# Altium footprint library SSW-102-22-X-S.PcbLib: 1 footprints
Each footprint in its own frame and in the unit in brackets; x right, y up, seen from the top. Pads: shape width x height; smd on the part's side, far side on the other; paste and mask are expansions set on the pad; w line width, h text height; cw(c..) or ccw(c..) is an arc to the next point about the centre after c.
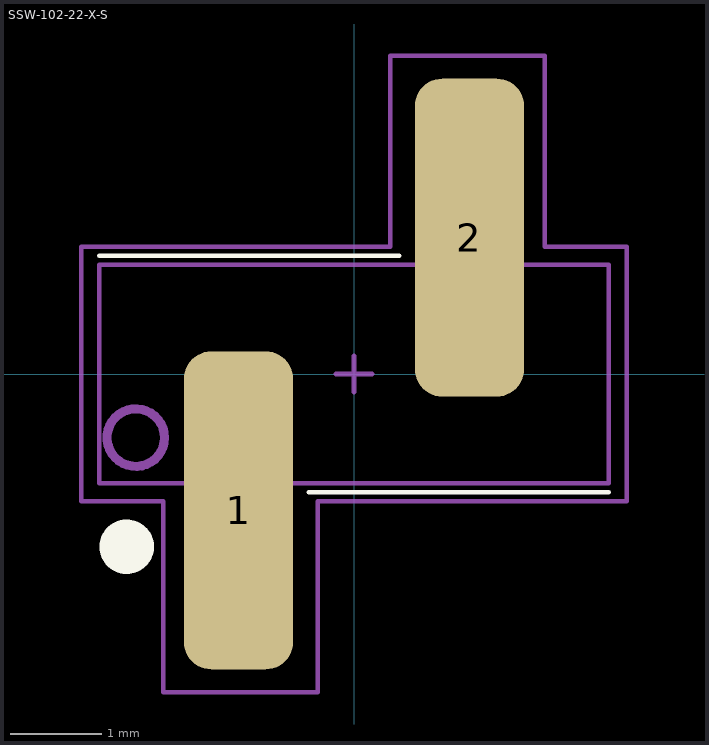
[diagram p0: the footprint, top view; thin cyan lines are the x and y axes]

## SSW-102-22-X-S [mm]
pads (2):
  rrect50% 1.2x3.5 smd mask+0.05: 1(-1.27,-1.5) 2(1.27,1.5)
Top Overlay:
  circle w0.3: c-2.5,-1.9 r0.15
  lines w0.05: -2.8,1.3 0.5,1.3 ; -0.5,-1.3 2.8,-1.3
Top Assembly:
  circle w0.1: c-2.4,-0.7 r0.316
  lines w0.05: -2.8,-1.2 -1.7,-1.2 -1.7,-2.6 -0.8,-2.6 -0.8,-1.2 2.8,-1.2 2.8,0 2.8,1.2 1.7,1.2 1.7,2.6 0.8,2.6 0.8,1.2 -2.8,1.2 -2.8,0 -2.8,-1.2
Top Courtyard:
  lines w0.05: -0.2,0 0.2,0 ; 0,-0.2 0,0.2 ; -3,-1.4 -2.1,-1.4 -2.1,-3.5 -0.4,-3.5 -0.4,-1.4 3,-1.4 3,1.4 2.1,1.4 2.1,3.5 0.4,3.5 0.4,1.4 -3,1.4 -3,-1.4
3D body "SSW-102-22-L-S-VS.stp": height 9.78, standoff 0, extent -2.794,-2.578 2.794,2.578